# Altium integrated library ASV-27.000MHZ-EJ-T.IntLib: 1 symbol
Pins are listed as number, name and electrical type; pins without a type are passive.

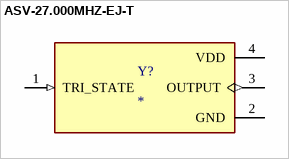
[diagram p0: symbol ASV-27.000MHZ-EJ-T]

## ASV-27.000MHZ-EJ-T
designator Y?
MP: ASV-27.000MHZ-EJ-T; Price: None; Value: *; Package: None; Availability: Unavailable
footprint XTAL_ASV-27.000MHZ-EJ-T
pins: 1 TRI_STATE (in), 2 GND (power), 3 OUTPUT (out), 4 VDD (power)